# Altium footprint library Devs.PcbLib: 40 footprints (part 1 of 3)
Each footprint in its own frame and in the unit in brackets; x right, y up, seen from the top. Pads: shape width x height; smd on the part's side, far side on the other; paste and mask are expansions set on the pad; w line width, h text height; cw(c..) or ccw(c..) is an arc to the next point about the centre after c.
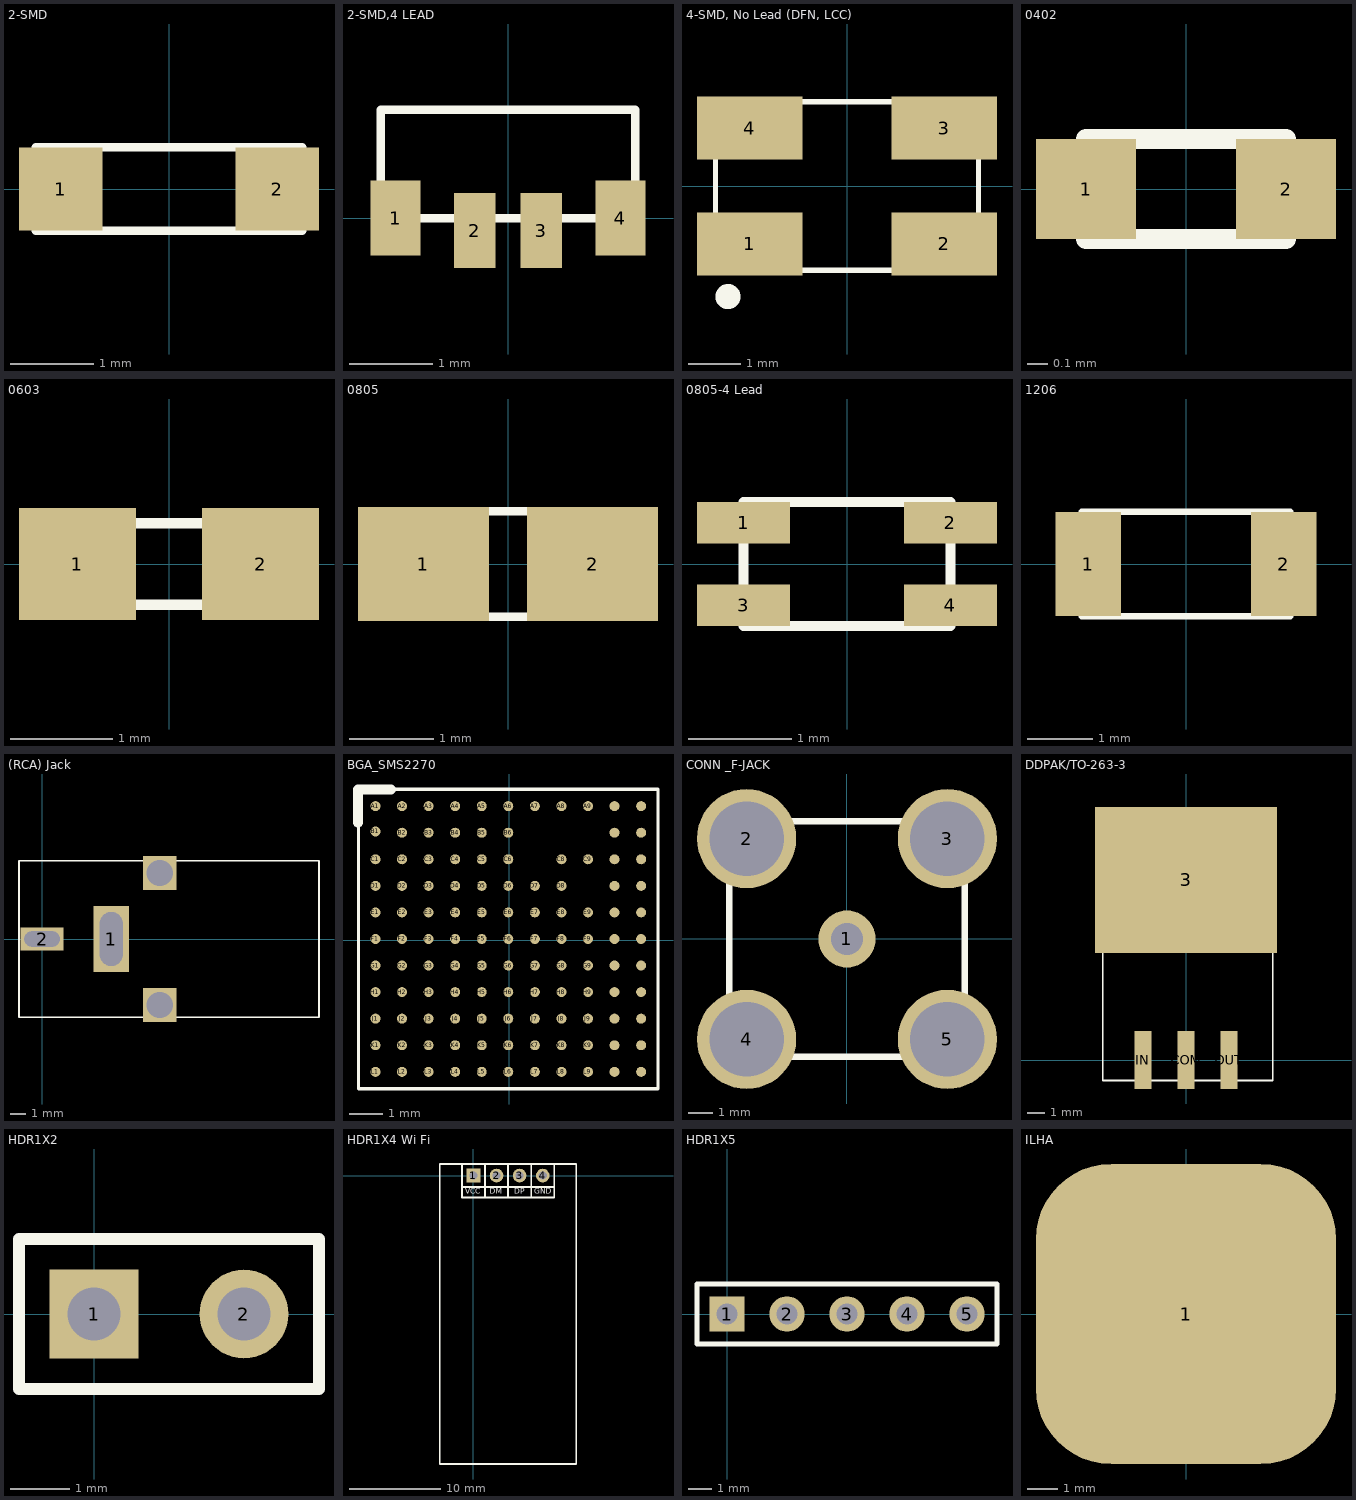
[diagram p0: the footprints below, top view; thin cyan lines are the x and y axes]

## 2-SMD [mm]
pads (2):
  rect 1x1 smd: 1(-1.3,0) 2(1.3,0)
Top Overlay:
  lines w0.1: -1.6,-0.5 1.6,-0.5 1.6,0.5 -1.6,0.5 -1.6,-0.5
3D body: height 1.49, standoff 0, extent -1.6,-0.491 1.6,0.5

## 2-SMD,4 LEAD [mm]
pads (4):
  rect 0.6x0.9 smd: 1(-1.35,0) 4(1.35,0)
  rect 0.5x0.9 smd: 2(-0.4,-0.15) 3(0.4,-0.15)
Top Overlay:
  lines w0.1: -1.525,0 1.525,0 1.525,1.3 -1.525,1.3 -1.525,0
3D body: height 0.5, standoff 0, extent 1.1,0.6 1.5,1.1
3D body: height 0.5, standoff 0, extent 0.2,0.6 0.7,1.1
3D body: height 0.5, standoff 0, extent -0.7,0.6 -0.2,1.1
3D body: height 0.5, standoff 0, extent -1.4,1.1 1.4,1.3
3D body: height 0.5, standoff 0, extent -1.5,0.6 -1.1,1.1
3D body: height 0.5, standoff 0, extent 0.7,0.6 1.1,1.1
3D body: height 0.5, standoff 0, extent -0.2,0.6 0.2,1.1
3D body: height 0.5, standoff 0, extent -1.1,0.6 -0.7,1.1
3D body: height 0.5, standoff 0, extent -1.6,0.1 -1.5,0.5
3D body: height 0.5, standoff 0, extent 1.5,0.1 1.6,0.5
3D body: height 0.5, standoff 0, extent 1.1,-0.3 1.6,0.1
3D body: height 0.5, standoff 0, extent -1.6,-0.3 -1.1,0.1
3D body: height 0.5, standoff 0, extent 0.2,-0.3 0.6,0.1
3D body: height 0.5, standoff 0, extent -0.6,-0.3 -0.2,0.1
3D body: height 0.5, standoff 0, extent -0.2,-0.3 0.2,0.5
3D body: height 0.5, standoff 0, extent -1.1,-0.3 -0.6,0.5
3D body: height 0.5, standoff 0, extent 0.6,-0.3 1.1,0.5
3D body: height 0.5, standoff 0, extent 1.6,-0.3 1.7,0.5
3D body: height 0.5, standoff 0, extent -1.5,0.1 1.5,0.6
3D body: height 0.5, standoff 0, extent -1.7,-0.3 -1.6,0.5

## 4-SMD, No Lead (DFN, LCC) [mm] "4-SMD, No Lead (DFN, LCC), 4-Leads. Body 5.00x3.20mm"
height 1
pads (4):
  rect 2x1.2 smd: 1(-1.85,-1.1) 2(1.85,-1.1) 3(1.85,1.1) 4(-1.85,1.1)
Top Overlay:
  circle w0.254: c-2.262,-2.1 r0.112
  lines w0.1: -2.5,-1.6 -2.5,1.6 2.5,1.6 2.5,-1.6 -2.5,-1.6
3D body: height 0.9, standoff -0.05, extent -2.49,-1.61 2.51,1.59

## 0402 [mm]
height 0.2
pads (2):
  rect 0.5x0.5 smd: 1(-0.5,0) 2(0.5,0)
Top Overlay:
  lines w0.1: -0.5,-0.25 -0.5,0.25 0.5,0.25 0.5,-0.25 -0.5,-0.25
3D body: height 0.2, standoff 0, extent -0.4,-0.25 0.4,0.25
3D body: height 0.2, standoff 0, extent -0.5,-0.25 -0.4,0.25
3D body: height 0.2, standoff 0, extent 0.4,-0.25 0.5,0.25

## 0603 [mm]
height 1
pads (2):
  rect 1.15x1.1 smd: 1(-0.9,0) 2(0.9,0)
Top Overlay:
  lines w0.1: -0.8,-0.4 -0.8,0.4 0.8,0.4 0.8,-0.4 -0.8,-0.4
3D body: height 0.5, standoff 0, extent -0.7,-0.4 0.7,0.4
3D body: height 0.5, standoff 0, extent -0.799,-0.4 -0.7,0.4
3D body: height 0.5, standoff 0, extent 0.7,-0.4 0.8,0.4

## 0805 [mm]
height 0.5
pads (2):
  rect 1.55x1.35 smd: 1(-1,0) 2(1,0)
Top Overlay:
  lines w0.1: -1,-0.625 1,-0.625 1,0.625 -1,0.625 -1,-0.625
3D body: height 0.5, standoff 0, extent 0.85,-0.6 1,0.6
3D body: height 0.5, standoff 0, extent -1,-0.6 -0.85,0.6
3D body: height 0.5, standoff 0, extent -0.85,-0.6 0.85,0.6

## 0805-4 Lead [mm]
height 0.5
pads (4):
  rect 0.9x0.4 smd: 1(-1,0.4) 2(1,0.4) 3(-1,-0.4) 4(1,-0.4)
Top Overlay:
  lines w0.1: -1,-0.6 1,-0.6 1,0.6 -1,0.6 -1,-0.6
3D body: height 1, standoff 0, extent -0.55,-0.6 0.55,0.6
3D body: height 1, standoff 0, extent -1,0.2 -0.55,0.6
3D body: height 1, standoff 0, extent -1,-0.6 -0.55,-0.2
3D body: height 1, standoff 0, extent -1,-0.2 -0.55,0.2
3D body: height 1, standoff 0, extent 0.55,-0.2 1,0.2
3D body: height 1, standoff 0, extent 0.55,0.2 1,0.6
3D body: height 1, standoff 0, extent 0.55,-0.6 1,-0.2

## 1206 [mm]
height 0.5
pads (2):
  rect 1x1.6 smd: 1(-1.5,0) 2(1.5,0)
Top Overlay:
  lines w0.1: -1.6,-0.8 1.6,-0.8 1.6,0.8 -1.6,0.8 -1.6,-0.8
3D body: height 0.5, standoff 0, extent 1.15,-0.8 1.6,0.8
3D body: height 0.5, standoff 0, extent -1.6,-0.8 -1.15,0.8
3D body: height 0.5, standoff 0, extent -1.15,-0.8 1.15,0.8

## (RCA) Jack [mm] "Female, Mono,3.20mm ID, 9.00mm OD (RCA)"
pads (4):
  rect 2.3x4.3 hole 1.5 slot 3.5 at 90 deg: 1(4.5,0)
  rect 2.8x1.5 hole 1 slot 2.3 at 0 deg: 2(0,0)
  rect 2.2x2.2 hole 1.7 square unplated: ""(7.65,-4.3) ""(7.65,4.3)
Top Overlay:
  lines w0.1: -1.5,-5.1 -1.5,5.1 18,5.1 18,-5.1 -1.5,-5.1
3D body: height 11.5, standoff -4, extent -1.55,-5 17.95,5

## BGA_SMS2270 [mm]
pads (116):
  round 0.3 smd: A1(-4.024,4.04) A2(-3.224,4.04) A3(-2.424,4.04) A4(-1.624,4.04) A5(-0.824,4.04) A6(-0.024,4.04) A7(0.776,4.04) A8(1.576,4.04) A9(2.376,4.04) A10(3.176,4.04) A11(3.976,4.04) B1(-4.025,3.278) B2(-3.224,3.24) B3(-2.424,3.24) B4(-1.624,3.24) B5(-0.824,3.24) B6(-0.024,3.24) B10(3.176,3.24) B11(3.976,3.24) C1(-4.024,2.44) C2(-3.224,2.44) C3(-2.424,2.44) C4(-1.624,2.44) C5(-0.824,2.44) C6(-0.024,2.44) C8(1.576,2.44) C9(2.376,2.44) C10(3.176,2.44) C11(3.976,2.44) D1(-4.024,1.64) D2(-3.224,1.64) D3(-2.424,1.64) D4(-1.624,1.64) D5(-0.824,1.64) D6(-0.024,1.64) D7(0.776,1.64) D8(1.576,1.64) D10(3.176,1.64) D11(3.976,1.64) E1(-4.024,0.84) E2(-3.224,0.84) E3(-2.424,0.84) E4(-1.624,0.84) E5(-0.824,0.84) E6(-0.024,0.84) E7(0.776,0.84) E8(1.576,0.84) E9(2.376,0.84) E10(3.176,0.84) E11(3.976,0.84) F1(-4.024,0.04) F2(-3.224,0.04) F3(-2.424,0.04) F4(-1.624,0.04) F5(-0.824,0.04) F6(-0.024,0.04) F7(0.776,0.04) F8(1.576,0.04) F9(2.376,0.04) F10(3.176,0.04) F11(3.976,0.04) G1(-4.024,-0.76) G2(-3.224,-0.76) G3(-2.424,-0.76) G4(-1.624,-0.76) G5(-0.824,-0.76) G6(-0.024,-0.76) G7(0.776,-0.76) G8(1.576,-0.76) G9(2.376,-0.76) G10(3.176,-0.76) G11(3.976,-0.76) H1(-4.024,-1.56) H2(-3.224,-1.56) H3(-2.424,-1.56) H4(-1.624,-1.56) H5(-0.824,-1.56) H6(-0.024,-1.56) H7(0.776,-1.56) H8(1.576,-1.56) H9(2.376,-1.56) H10(3.176,-1.56) H11(3.976,-1.56) J1(-4.024,-2.36) J2(-3.224,-2.36) J3(-2.424,-2.36) J4(-1.624,-2.36) J5(-0.824,-2.36) J6(-0.024,-2.36) J7(0.776,-2.36) J8(1.576,-2.36) J9(2.376,-2.36) J10(3.176,-2.36) J11(3.976,-2.36) K1(-4.024,-3.16) K2(-3.224,-3.16) K3(-2.424,-3.16) K4(-1.624,-3.16) K5(-0.824,-3.16) K6(-0.024,-3.16) K7(0.776,-3.16) K8(1.576,-3.16) K9(2.376,-3.16) K10(3.176,-3.16) K11(3.976,-3.16) L1(-4.024,-3.96) L2(-3.224,-3.96) L3(-2.424,-3.96) L4(-1.624,-3.96) L5(-0.824,-3.96) L6(-0.024,-3.96) L7(0.776,-3.96) L8(1.576,-3.96) L9(2.376,-3.96) L10(3.176,-3.96) L11(3.976,-3.96)
Top Overlay:
  lines w0.1: -4.533,-4.469 -4.533,4.548 4.484,4.548 4.484,-4.469 -4.533,-4.469
  lines w0.3: -4.55,3.54 -4.55,4.54 -3.55,4.54
3D body: height 1, standoff 0, extent -4.516,-4.508 4.5,4.508

## CONN _F-JACK [mm] "CONN _F-JACK, 5-pins"
height 13
pads (5):
  round 2.3 hole 1.3: 1(0,0)
  round 4 hole 3: 2(-4.05,4.05) 3(4.05,4.05) 4(-4.05,-4.05) 5(4.05,-4.05)
Top Overlay:
  lines w0.254: -4.75,-4.75 -4.75,4.75 4.75,4.75 4.75,-4.75 ; -4.65,-4.75 4.85,-4.75
3D body: height 12, standoff -3.5, extent -22.85,-5.15 5.15,5.15

## DDPAK/TO-263-3 [mm] "TO-263-4, D²Pak (3 Leads + Tab), TO-263AA"
pads (4):
  rect 10.7x8.6 smd: 3(0,10.6)
  rect 1x3.4 smd: COM(0,0) IN(-2.54,0) OUT(2.54,0)
Top Overlay:
  lines w0.1: -4.9,-1.2 5.1,-1.2 5.1,14.5 -4.9,14.5 -4.9,-1.2
3D body: height 4.78, standoff -0.02, extent -4.9,-1.19 5.1,14.48

## HDR1X2 [mm] "Connector; Header; 2 Position"
pads (2):
  rect 1.5x1.5 hole 0.9: 1(0,0)
  round 1.5 hole 0.9: 2(2.54,0)
Top Overlay:
  lines w0.2: -1.27,-1.27 3.81,-1.27 3.81,1.27 -1.27,1.27 -1.27,-1.27
3D body: height 8.49, standoff -2.49, extent -1.26,-1.28 3.82,1.26

## HDR1X4 Wi Fi [mm]
pads (4):
  rect 1.5x1.5 hole 0.9: 1(0,0)
  round 1.5 hole 0.9: 2(2.54,0) 3(5.08,0) 4(7.62,0)
Top Overlay:
  lines w0.2: -1.27,-1.27 8.89,-1.27 ; 1.27,-2.4 1.27,1.2 ; 3.81,-2.4 3.81,1.2 ; 6.35,-2.4 6.35,1.27 ; -3.7,-31.73 -3.7,1.27 11.3,1.27 11.3,-31.73 -3.7,-31.73 ; -1.27,-2.4 -1.27,1.27 8.89,1.27 8.89,-2.4 -1.27,-2.4
  text "VCC" at -0.9,-2.2 h1
  text "DM" at 1.8,-2.2 h1
  text "DP" at 4.5,-2.2 h1
  text "GND" at 6.7,-2.2 h1
3D body: height 8.49, standoff -2.49, extent -1.26,-1.28 3.82,1.26
3D body: height 8.49, standoff -2.49, extent 3.8,-1.27 8.88,1.27

## HDR1X5 [mm]
height 3
pads (5):
  rect 1.5x1.5 hole 0.9: 1(0,0)
  round 1.5 hole 0.9: 2(2.54,0) 3(5.08,0) 4(7.62,0) 5(10.16,0)
Top Overlay:
  lines w0.2: -1.27,-1.27 -1.27,1.27 11.43,1.27 11.43,-1.27 -1.27,-1.27
3D body: height 8.49, standoff -2.49, extent -1.26,-1.28 3.82,1.26
3D body: height 8.49, standoff -2.49, extent 3.82,-1.27 8.9,1.27
3D body: height 8.49, standoff -2.49, extent 6.36,-1.28 11.44,1.26

## ILHA [mm]
pads (1):
  rrect50% 10x10 smd: 1(0,0)